# Altium footprint library servo.PcbLib: 33 footprints (part 2 of 3)
Each footprint in its own frame and in the unit in brackets; x right, y up, seen from the top. Pads: shape width x height; smd on the part's side, far side on the other; paste and mask are expansions set on the pad; w line width, h text height; cw(c..) or ccw(c..) is an arc to the next point about the centre after c.
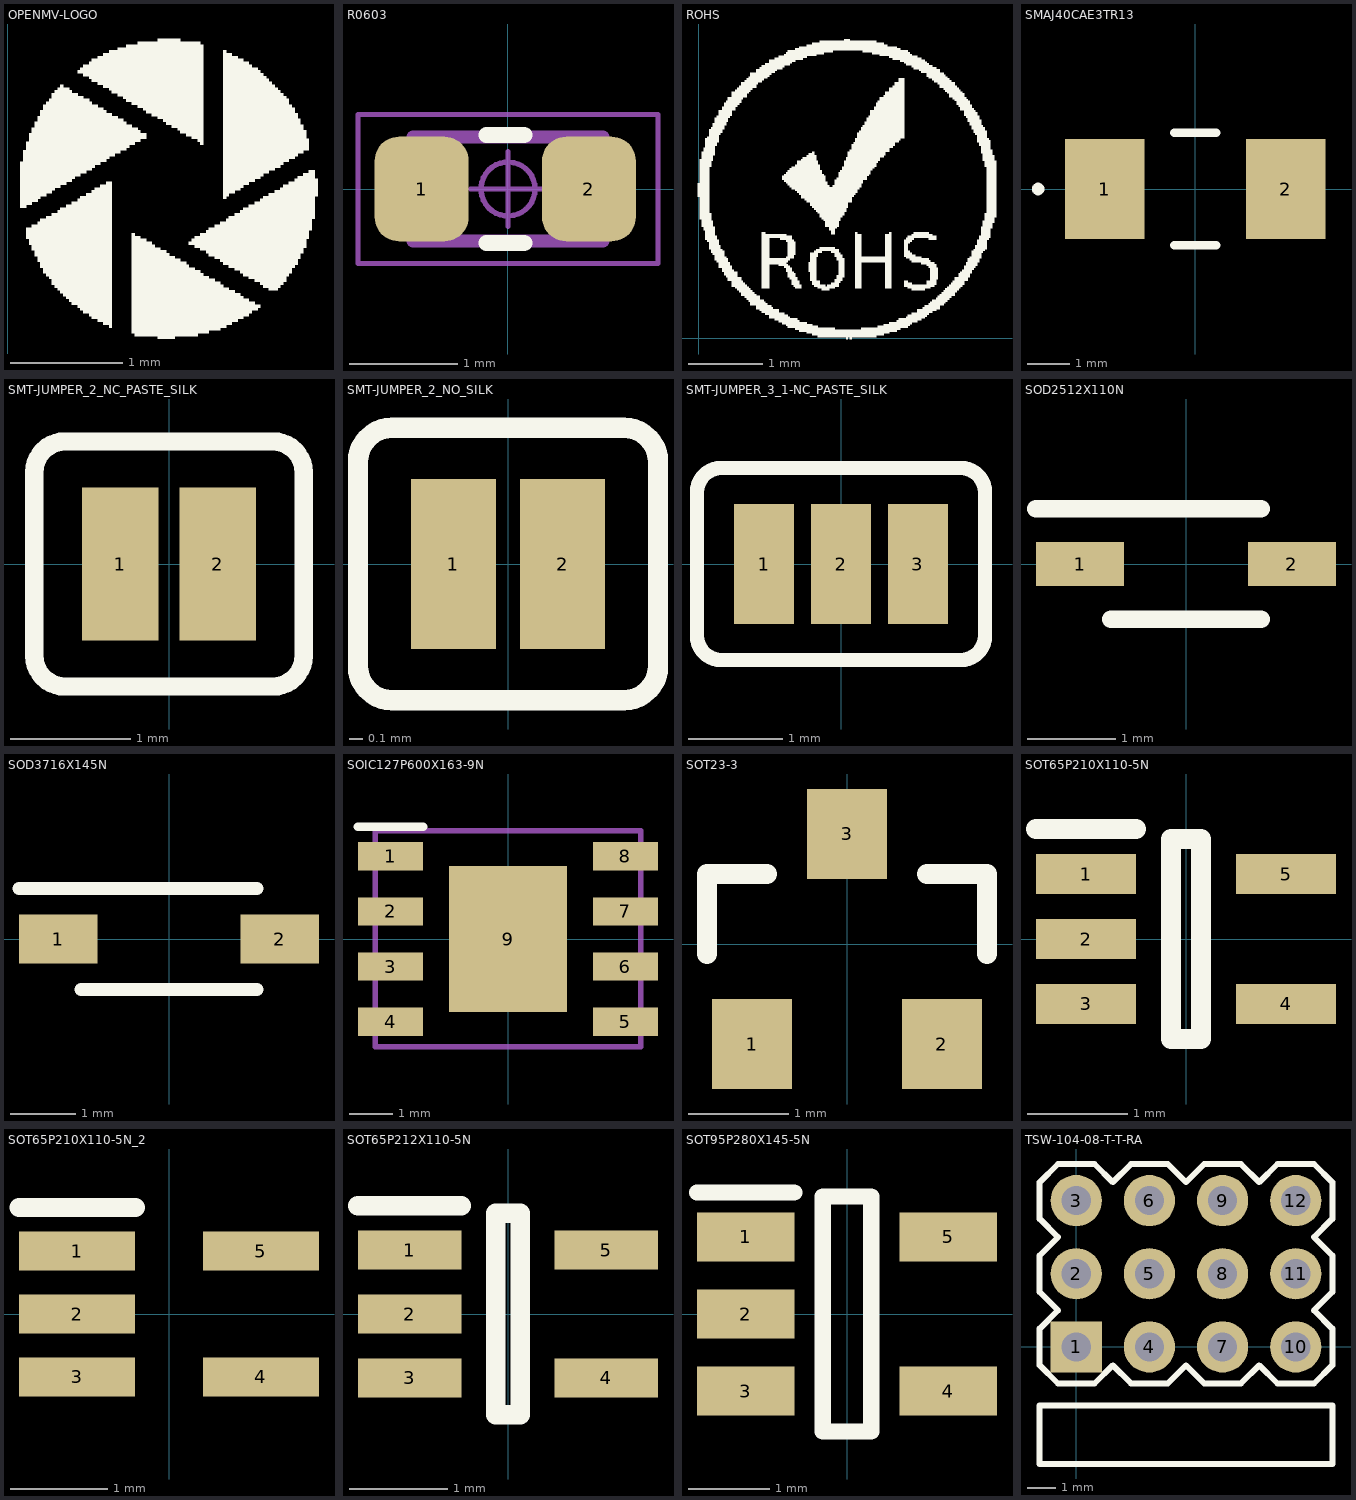
[diagram p1: the footprints below, top view; thin cyan lines are the x and y axes]

## OPENMV-LOGO [mil] "OPENMV-LOGO"
Top Overlay:
  drawing of 262 lines, arcs and shapes, not listed

## R0603 [mm] "R0603"
pads (2):
  rrect51% 0.87x0.97 smd mask+0.05: 1(-0.8,0) 2(0.75,0)
Top Overlay:
  lines w0.15: -0.2,-0.5 0.15,-0.5 ; -0.2,0.5 0.15,0.5
Mechanical 13:
  lines w0.12: -0.88,-0.48 0.88,-0.48 0.88,0.48 -0.88,0.48 -0.88,-0.48
  text ".designator" at -0.762,-0.305 h0.3
Mechanical 15:
  circle w0.05: c0,0 r0.25
  lines w0.05: -0.345,0 0.345,0 ; 0,-0.345 0,0.345 ; -1.39,-0.69 -1.39,0.69 1.39,0.69 1.39,-0.69 -1.39,-0.69
3D body "R0603.step": height 0.45, standoff 0, extent -0.8,-0.4 0.8,0.4

## ROHS [mil] "ROHS"
Top Overlay:
  drawing of 599 lines, arcs and shapes, not listed

## SMAJ40CAE3TR13 [mm] "SMAJ40CAE3TR13"
pads (2):
  rect 1.9x2.39 smd: 1(-2.16,0) 2(2.16,0)
Top Overlay:
  lines w0.2: -0.5,-1.34 0.5,-1.34 ; -0.5,1.34 0.5,1.34 ; -3.8,0 ccw(c-3.75,0) -3.7,0 ; -3.8,0 cw(c-3.75,0) -3.7,0 ; -3.8,0 ccw(c-3.75,0) -3.7,0
3D body "Diode SMA.stp": height 2.41, standoff 0, extent -2.65,-1.47 2.63,1.45

## SMT-JUMPER_2_NC_PASTE_SILK [mil] "SMT-JUMPER_2_NC_PASTE_SILK"
pads (2):
  rect 25x50 smd paste+0: 1(-16,0) 2(16,0)
Top Overlay:
  lines w6: -44,-30 ccw(c-34,-30) -34,-40 34,-40 ccw(c34,-30) 44,-30 44,30 ccw(c34,30) 34,40 -34,40 ccw(c-34,30) -44,30 -44,-30
Top Paste:
  region: -49,-44 -49,44 49,44 49,-44

## SMT-JUMPER_2_NO_SILK [mil] "SMT-JUMPER_2_NO_SILK"
pads (2):
  rect 25x50 smd paste+0: 1(-16,0) 2(16,0)
Top Overlay:
  lines w6: -44,-30 ccw(c-34,-30) -34,-40 34,-40 ccw(c34,-30) 44,-30 44,30 ccw(c34,30) 34,40 -34,40 ccw(c-34,30) -44,30 -44,-30

## SMT-JUMPER_3_1-NC_PASTE_SILK [mil] "SMT-JUMPER_3_1-NC_PASTE_SILK"
pads (3):
  rect 25x50 smd paste+0: 1(-32,0) 2(0,0) 3(32,0)
Top Overlay:
  lines w6: -60,-30 ccw(c-50,-30) -50,-40 50,-40 ccw(c50,-30) 60,-30 60,30 ccw(c50,30) 50,40 -50,40 ccw(c-50,30) -60,30 -60,-30
Top Paste:
  region: -16,-44 -16,44 65,44 65,-44

## SOD2512X110N [mm] "SOD2512X110N"
pads (2):
  rect 1x0.5 smd: 1(-1.2,0) 2(1.2,0)
Top Overlay:
  lines w0.2: -1.7,0.625 0.85,0.625 ; -0.85,-0.625 0.85,-0.625
3D body "SOD-323.STEP": height 1.16, standoff 0.01, extent -1.35,-0.723 1.35,0.723

## SOD3716X145N [mil] "SOD3716X145N"
pads (2):
  rect 47.24x29.53 smd: 1(-66.93,0) 2(66.93,0)
Top Overlay:
  lines w7.87: -90.55,30.51 53.15,30.51 ; -53.15,-30.51 53.15,-30.51
3D body "SOD123_DIO.step": height 32.09, standoff 0, extent -75.79,-26.57 75.79,26.57

## SOIC127P600X163-9N [mm] "SOIC127P600X163-9N"
pads (9):
  rect 1.5x0.65 smd: 1(-2.7,1.905) 2(-2.7,0.635) 3(-2.7,-0.635) 4(-2.7,-1.905) 5(2.7,-1.905) 6(2.7,-0.635) 7(2.7,0.635) 8(2.7,1.905)
  rect 2.71x3.35 smd: 9(0,0)
Top Overlay:
  lines w0.2: -3.45,2.58 -1.95,2.58
Mechanical 13:
  lines w0.127: -3.048,-2.475 -3.048,2.489 3.048,2.489 3.048,-2.475 -3.048,-2.475
  text ".designator" at -2.769,-2.514 h0.76
3D body "SO-8EP_DIO.step": height 1.63, standoff 0, extent -3.048,-2.476 3.048,2.476

## SOT23-3 [mil] "SOT23-3"
pads (3):
  rect 31.5x35.43 smd: 1(-37.4,-39.37) 2(37.4,-39.37) 3(0,43.31)
Top Overlay:
  lines w8: -55.12,-3.94 -55.12,27.56 -31.5,27.56 ; 31.5,27.56 55.12,27.56 55.12,-3.94
3D body "SOT23-3.stp": height 47.44, standoff 0.8, extent -59.05,-55.81 59.06,55.82

## SOT65P210X110-5N [mm] "SOT65P210X110-5N"
pads (5):
  rect 1x0.4 smd: 1(-1,0.65) 2(-1,0) 3(-1,-0.65) 4(1,-0.65) 5(1,0.65)
Top Overlay:
  lines w0.2: -1.5,1.1 -0.5,1.1 ; -0.15,-1 -0.15,1 0.15,1 0.15,-1 -0.15,-1
3D body "sc705_model.STEP": height 0.96, standoff 0.01, extent -1.025,-1 1.075,1

## SOT65P210X110-5N_2 [mm]
pads (5):
  rect 1.2x0.4 smd: 1(-0.95,0.65) 2(-0.95,0) 3(-0.95,-0.65) 4(0.95,-0.65) 5(0.95,0.65)
Top Overlay:
  lines w0.2: -1.55,1.1 -0.35,1.1
3D body "sc705_model.STEP": height 0.96, standoff 0.01, extent -1.025,-1 1.075,1

## SOT65P212X110-5N [mm] "SOT65P212X110-5N"
pads (5):
  rect 1.05x0.4 smd: 1(-1,0.65) 2(-1,0) 3(-1,-0.65) 4(1,-0.65) 5(1,0.65)
Top Overlay:
  lines w0.2: -1.525,1.1 -0.475,1.1 ; -0.125,-1.025 -0.125,1.025 0.125,1.025 0.125,-1.025 -0.125,-1.025
3D body "sc705_model.STEP": height 0.96, standoff 0.01, extent -1.025,-1 1.075,1

## SOT95P280X145-5N [mil] "SOT95P280X145-5N"
pads (5):
  rect 47.24x23.62 smd: 1(-49.21,37.4) 2(-49.21,0) 3(-49.21,-37.4) 4(49.21,-37.4) 5(49.21,37.4)
Top Overlay:
  lines w7.87: -72.83,59.06 -25.59,59.06 ; -11.81,-57.09 -11.81,57.09 11.81,57.09 11.81,-57.09 -11.81,-57.09
3D body "SOT-23-5.stp": height 46.46, standoff 0.2, extent -55.12,-58.57 55.12,59.05

## TSW-104-08-T-T-RA [mil] "1X03"
pads (12):
  rect 70x70 hole 40: 1(0,0)
  round 70 hole 40: 2(0,100) 3(0,200) 4(100,0) 5(100,100) 6(100,200) 7(200,0) 8(200,100) 9(200,200) 10(300,0) 11(300,100) 12(300,200)
Top Overlay:
  lines w8: -50,-25 -50,25 ; -50,-25 -25,-50 ; -50,-25 -50,25 ; -50,-25 -25,-50 ; -50,25 -25,50 -50,75 -50,125 -25,150 -50,175 ; -50,175 -50,225 ; -50,175 -50,225 ; -50,225 -25,250 ; -50,225 -25,250 ; -25,-50 25,-50 50,-25 75,-50 125,-50 150,-25 175,-50 225,-50 250,-25 275,-50 ; -25,250 25,250 50,225 75,250 125,250 150,225 175,250 225,250 250,225 275,250 ; 275,-50 325,-50 ; 275,-50 325,-50 ; 275,250 325,250 ; 275,250 325,250 ; 325,-50 350,-25 ; 325,-50 350,-25 ; 325,250 350,225 ; 325,250 350,225 ; 350,-25 350,25 ; 350,-25 350,25 ; 350,25 325,50 350,75 350,125 325,150 350,175 ; 350,175 350,225 ; 350,175 350,225 ; -50,-160 -50,-80 350,-80 350,-160 -50,-160
3D body "TSW-104-08-T-T-RA.stp": height 320.5, standoff -89.5, extent -50,-390 350,212.5